# Altium footprint library Transformators_imp.PCBLIB: 7 footprints
Each footprint in its own frame and in the unit in brackets; x right, y up, seen from the top. Pads: shape width x height; smd on the part's side, far side on the other; paste and mask are expansions set on the pad; w line width, h text height; cw(c..) or ccw(c..) is an arc to the next point about the centre after c.
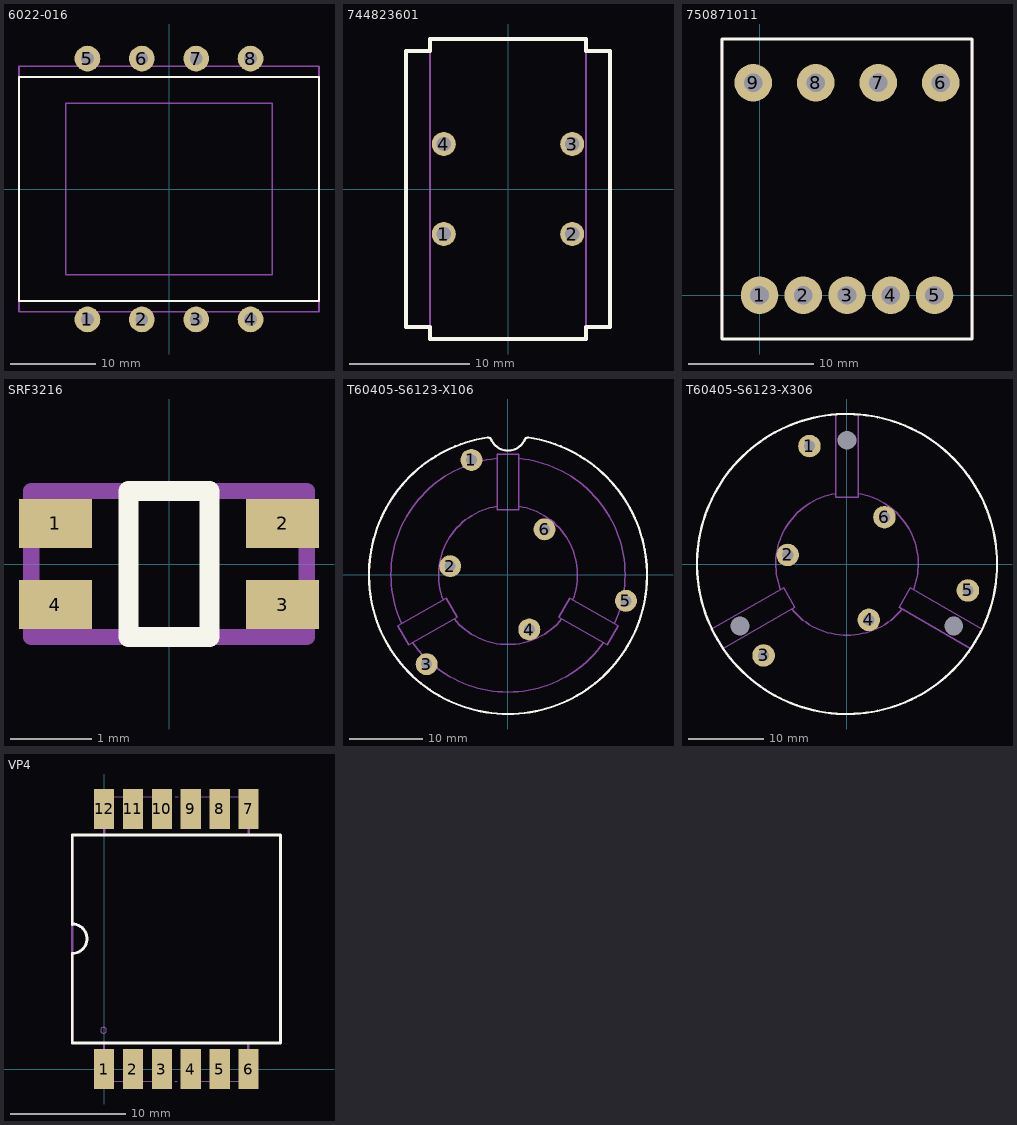
[diagram p0: the footprints below, top view; thin cyan lines are the x and y axes]

## 6022-016 [mm]
height 23.8
pads (8):
  round 3 hole 1.5: 1(-9.525,-15.24) 2(-3.175,-15.24) 3(3.175,-15.24) 4(9.525,-15.24) 5(-9.525,15.24) 6(-3.175,15.24) 7(3.175,15.24) 8(9.525,15.24)
Top Overlay:
  lines w0.25: -17.526,-13.081 -17.526,13.081 17.526,13.081 17.526,-13.081 -17.526,-13.081
Mechanical 1:
  lines w0.2: -17.526,-14.351 17.526,-14.351 17.526,14.351 -17.526,14.351 -17.526,-14.351 ; -12.065,-10.033 -12.065,10.033 12.065,10.033 12.065,-10.033 -12.065,-10.033
  text "4" at 9.271,-12.7 h1.5
  text ".Comment" at -2.61,-1.41 h1.5
  text ".Designator" at -1.02,0.29 h1.5
  text "1" at -9.779,-12.7 h1.5
  text "5" at -9.779,11.684 h1.5
  text "8" at 9.271,11.684 h1.5
3D body: height 23.81, standoff -3, extent -17.526,-15.64 17.526,15.64

## 744823601 [mm]
height 26.5
pads (4):
  round 2 hole 1.2: 1(-5.35,-3.75) 2(5.35,-3.75) 3(5.35,3.75) 4(-5.35,3.75)
Top Overlay:
  lines w0.3: -8.5,-11.5 -8.5,11.5 -6.5,11.5 -6.5,12.5 6.5,12.5 6.5,11.5 8.5,11.5 8.5,-11.5 6.5,-11.5 6.5,-12.5 -6.5,-12.5 -6.5,-11.5 -8.5,-11.5
Mechanical 1:
  circle w0.1: c-5.604,-3.75 r0.254
  lines w0.2: -6.5,-11.5 -8.5,-11.5 -8.5,11.5 -6.5,11.5 ; 6.5,-11.5 8.5,-11.5 8.5,11.5 6.5,11.5 ; -6.5,-12.5 6.5,-12.5 6.5,12.5 -6.5,12.5 -6.5,-12.5
  text "4" at -5.5,2.9 h1.5
  text ".Comment" at -0.8,-2 h1.5
  text ".Designator" at -1,1.2 h1.5
3D body: height 26, standoff -3, extent -8.5,-12.5 8.5,12.498

## 750871011 [mm]
height 16
pads (9):
  round 3 hole 1.5: 1(0,0) 2(3.5,0) 3(7,0) 4(10.5,0) 5(14,0) 6(14.5,17) 7(9.5,17) 8(4.5,17) 9(-0.5,17)
Top Overlay:
  lines w0.25: -3,-3.5 17,-3.5 17,20.5 -3,20.5 -3,-3.5
Mechanical 1:
  circle w0.1: c-0.254,0 r0.254
  lines w0.2: -3,-3.5 -3,20.5 17,20.5 17,-3.5 -3,-3.5
  text ".Designator" at 5.98,8.79 h1.5
  text ".Comment" at 4.39,7.09 h1.5
  text "9" at 0.2,16.15 h1.5
3D body: height 10, standoff -3, extent -3,-3.5 17,20.5

## SRF3216 [mm]
height 2.2
pads (4):
  rect 0.9x0.6 smd: 1(-1.4,0.5) 2(1.4,0.5) 3(1.4,-0.5) 4(-1.4,-0.5)
Top Overlay:
  lines w0.25: -0.5,-0.9 -0.5,0.9 0.5,0.9 0.5,-0.9 -0.5,-0.9
Mechanical 1:
  lines w0.2: -1.7,-0.9 -1.7,0.9 1.7,0.9 1.7,-0.9 -1.7,-0.9
  text ".Designator" at -0.78,1.35 h1.5
  text "1" at -2.4,0.3 h1.5
  text "2" at 2,0.3 h1.5
  text "3" at 2,-1.1 h1.5
  text "4" at -2.6,-1.1 h1.5
3D body: height 2.2, standoff 0, extent -1.7,-0.9 1.7,0.9

## T60405-S6123-X106 [mm]
height 28
pads (6):
  round 3 hole 1.5: 1(-5,15.724) 2(-7.908,1.208) 3(-11.118,-12.192) 4(2.908,-7.453) 5(16.118,-3.532) 6(5,6.245)
Top Overlay:
  lines w0.3: -2.822,18.789 ccw(c0,0) 2.822,18.789 ccw(c2.747,18.295) 2.289,18.496 cw(c0,19.5) -2.289,18.496 ccw(c-2.747,18.295) -2.822,18.789
Mechanical 1:
  circle w0.2: c2.908,-7.453 r0.5
  circle w0.2: c-7.908,1.208 r0.5
  circle w0.2: c5,6.245 r0.5
  circle w0.2: c-11.118,-12.192 r0.5
  circle w0.2: c16.118,-3.532 r0.5
  circle w0.2: c-5,15.724 r0.5
  lines w0.2: -14.545,-6.666 cw(c0,0) -1.5,15.93 ; -13.045,-9.264 ccw(c0,0) 13.045,-9.264 ; -8.874,-3.391 cw(c0,0) -1.5,9.381 ; -7.374,-5.989 ccw(c0,0) 7.374,-5.989 ; 1.5,9.381 cw(c0,0) 8.874,-3.391 ; 1.5,15.93 cw(c0,0) 14.545,-6.666 ; -15.039,-6.951 -8.458,-3.151 -6.958,-5.749 -13.539,-9.549 -15.039,-6.951 ; -2.822,18.789 cw(c-2.747,18.295) -2.289,18.496 ccw(c0,19.5) 2.289,18.496 cw(c2.747,18.295) 2.822,18.789 cw(c0,0) -2.822,18.789 ; -1.5,8.9 1.5,8.9 1.5,16.5 -1.5,16.5 -1.5,8.9 ; 6.958,-5.749 8.458,-3.151 15.039,-6.951 13.539,-9.549 6.958,-5.749
  text ".Designator" at -1.02,0.29 h1.5
  text ".Comment" at -2.61,-1.41 h1.5
  text "1" at -5,13 h1.5
  text "2" at -11,1 h1.5
  text "3" at -9,-11 h1.5
  text "4" at 4,-11 h1.5
  text "5" at 14,-2 h1.5
  text "6" at 8,7 h1.5
3D body: height 27, standoff -3, extent -18.862,-18.839 18.862,18.792

## T60405-S6123-X306 [mm]
height 28.5
pads (9):
  round 0 hole 2.5: 0(-14.25,-8.25) 0(0,16.5) 0(14.25,-8.25)
  round 3 hole 1.5: 1(-5,15.724) 2(-7.908,1.208) 3(-11.118,-12.192) 4(2.908,-7.453) 5(16.118,-3.532) 6(5,6.245)
Top Overlay:
  circle w0.3: c0,0 r20
Mechanical 1:
  circle w0.2: c-5,15.724 r0.5
  circle w0.2: c16.118,-3.532 r0.5
  circle w0.2: c-11.118,-12.192 r0.5
  circle w0.2: c5,6.245 r0.5
  circle w0.2: c-7.908,1.208 r0.5
  circle w0.2: c2.908,-7.453 r0.5
  lines w0.2: -8.874,-3.391 cw(c0,0) -1.5,9.381 ; -7.374,-5.989 ccw(c0,0) 7.374,-5.989 ; -1.496,19.944 ccw(c0,0) 1.496,19.944 ; 1.5,9.381 cw(c0,0) 8.874,-3.391 ; -18.067,-8.699 -16.567,-11.297 -6.958,-5.749 -8.458,-3.151 -18.067,-8.699 ; -1.5,8.9 -1.5,20 1.5,20 1.5,8.9 -1.5,8.9 ; 6.958,-5.749 16.523,-11.272 18.023,-8.674 8.458,-3.151 6.958,-5.749
  text "6" at 8,7 h1.5
  text "5" at 14,-2 h1.5
  text "4" at 4,-11 h1.5
  text "3" at -9,-11 h1.5
  text "2" at -11,1 h1.5
  text "1" at -5,13 h1.5
  text ".Comment" at -2.61,-1.41 h1.5
  text ".Designator" at -1.02,0.29 h1.5
3D body: height 32.5, standoff -3, extent -19.864,-19.836 19.864,20.1

## VP4 [mm]
height 10
pads (12):
  rect 1.75x3.45 smd: 1(0,0) 2(2.5,0) 3(5,0) 4(7.5,0) 5(10,0) 6(12.5,0) 7(12.5,22.5) 8(10,22.5) 9(7.5,22.5) 10(5,22.5) 11(2.5,22.5) 12(0,22.5)
Top Overlay:
  lines w0.25: -2.75,9.98 -2.75,2.25 15.25,2.25 15.25,20.25 -2.75,20.25 -2.75,12.52 ; -2.75,10.008 ccw(c-2.75,11.278) -2.75,12.548
Mechanical 1:
  circle w0.1: c-0.054,3.35 r0.254
  lines w0.1: 0,-1.05 5,-1.05 ; 0.024,23.55 5,23.55 ; 6.096,-1.05 6.35,-1.05 ; 6.15,23.55 6.404,23.55 ; 7.5,-1.05 12.476,-1.05 ; 7.5,23.55 12.5,23.55
  lines w0.2: -2.75,10.008 ccw(c-2.75,11.278) -2.75,12.548 ; 0,-1.05 0,2.25 ; 0.024,20.25 0.024,23.55 ; 12.476,-1.05 12.476,2.25 ; 12.5,20.25 12.5,23.55 ; 15.25,2.25 -2.75,2.25 -2.75,20.25 15.25,20.25
  lines w0.25: 15.25,2.25 15.25,20.25
  text "12" at -0.3,18.65 h1.5
  text ".Comment" at 3.89,9.59 h1.5
  text ".Designator" at 5.48,11.29 h1.5
3D body: height 10, standoff 0, extent -2.75,-1.05 15.25,23.55